# Altium footprint library TPS610994YFFT.PcbLib: 1 footprints
Each footprint in its own frame and in the unit in brackets; x right, y up, seen from the top. Pads: shape width x height; smd on the part's side, far side on the other; paste and mask are expansions set on the pad; w line width, h text height; cw(c..) or ccw(c..) is an arc to the next point about the centre after c.
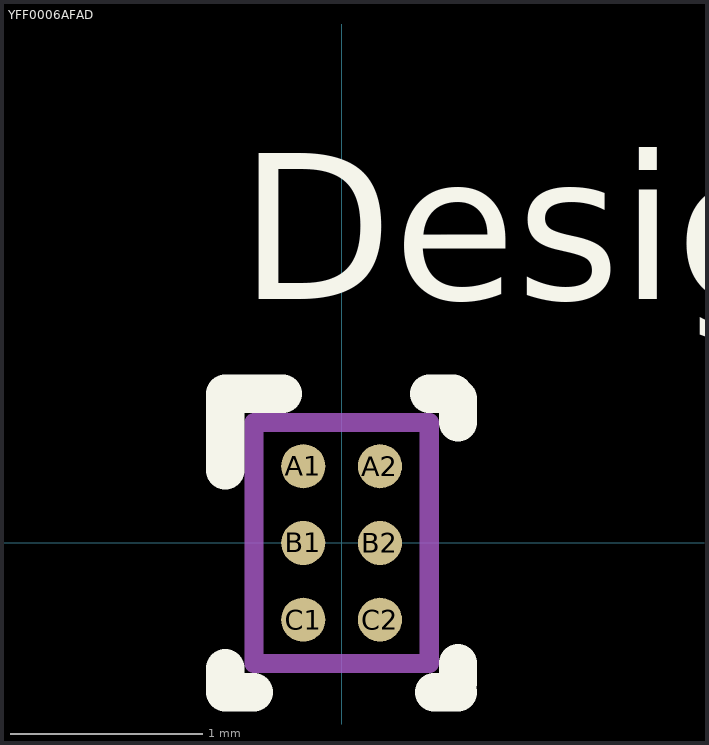
[diagram p0: the footprint, top view; thin cyan lines are the x and y axes]

## YFF0006AFAD [mm]
pads (6):
  round 0.23 smd paste-0.102 mask+0.038: A1(-0.2,0.4) A2(0.2,0.4) B1(-0.2,0) B2(0.2,0) C1(-0.2,-0.4) C2(0.2,-0.4)
Top Overlay:
  lines w0.2: -0.607,-0.653 -0.607,-0.778 -0.457,-0.778 ; -0.607,0.378 -0.607,0.778 -0.307,0.778 ; 0.457,0.778 0.582,0.778 ; 0.482,-0.778 0.607,-0.778 ; 0.607,-0.728 0.607,-0.628 ; 0.607,0.628 0.607,0.753
  text "Designator9" at -0.533,1.27 h1.27
Top Paste:
  circle w0.05: c-0.125,-0.475 r0.025
  circle w0.05: c-0.275,-0.325 r0.025
  circle w0.05: c-0.125,-0.325 r0.025
  circle w0.05: c-0.275,-0.475 r0.025
  circle w0.05: c-0.125,-0.075 r0.025
  circle w0.05: c-0.275,0.075 r0.025
  circle w0.05: c-0.125,0.075 r0.025
  circle w0.05: c-0.275,-0.075 r0.025
  circle w0.05: c-0.275,0.325 r0.025
  circle w0.05: c-0.125,0.475 r0.025
  circle w0.05: c-0.275,0.475 r0.025
  circle w0.05: c-0.125,0.325 r0.025
  circle w0.05: c0.275,-0.475 r0.025
  circle w0.05: c0.125,-0.325 r0.025
  circle w0.05: c0.275,-0.325 r0.025
  circle w0.05: c0.125,-0.475 r0.025
  circle w0.05: c0.275,-0.075 r0.025
  circle w0.05: c0.125,0.075 r0.025
  circle w0.05: c0.275,0.075 r0.025
  circle w0.05: c0.125,-0.075 r0.025
  circle w0.05: c0.125,0.325 r0.025
  circle w0.05: c0.275,0.475 r0.025
  circle w0.05: c0.125,0.475 r0.025
  circle w0.05: c0.275,0.325 r0.025
  region: -0.275,-0.325 -0.325,-0.325 -0.325,-0.475 -0.275,-0.475
  region: -0.125,-0.325 -0.125,-0.275 -0.275,-0.275 -0.275,-0.325
  region: -0.125,-0.475 -0.075,-0.475 -0.075,-0.325 -0.125,-0.325
  region: -0.275,-0.475 -0.275,-0.525 -0.125,-0.525 -0.125,-0.475
  region: -0.125,-0.475 -0.125,-0.325 -0.275,-0.325 -0.275,-0.475
  region: -0.275,0.075 -0.325,0.075 -0.325,-0.075 -0.275,-0.075
  region: -0.125,0.075 -0.125,0.125 -0.275,0.125 -0.275,0.075
  region: -0.125,-0.075 -0.075,-0.075 -0.075,0.075 -0.125,0.075
  region: -0.275,-0.075 -0.275,-0.125 -0.125,-0.125 -0.125,-0.075
  region: -0.125,-0.075 -0.125,0.075 -0.275,0.075 -0.275,-0.075
  region: -0.125,0.325 -0.125,0.475 -0.275,0.475 -0.275,0.325
  region: -0.275,0.325 -0.275,0.275 -0.125,0.275 -0.125,0.325
  region: -0.125,0.325 -0.075,0.325 -0.075,0.475 -0.125,0.475
  region: -0.125,0.475 -0.125,0.525 -0.275,0.525 -0.275,0.475
  region: -0.275,0.475 -0.325,0.475 -0.325,0.325 -0.275,0.325
  region: 0.125,-0.325 0.075,-0.325 0.075,-0.475 0.125,-0.475
  region: 0.275,-0.325 0.275,-0.275 0.125,-0.275 0.125,-0.325
  region: 0.275,-0.475 0.325,-0.475 0.325,-0.325 0.275,-0.325
  region: 0.125,-0.475 0.125,-0.525 0.275,-0.525 0.275,-0.475
  region: 0.275,-0.475 0.275,-0.325 0.125,-0.325 0.125,-0.475
  region: 0.125,0.075 0.075,0.075 0.075,-0.075 0.125,-0.075
  region: 0.275,0.075 0.275,0.125 0.125,0.125 0.125,0.075
  region: 0.275,-0.075 0.325,-0.075 0.325,0.075 0.275,0.075
  region: 0.125,-0.075 0.125,-0.125 0.275,-0.125 0.275,-0.075
  region: 0.275,-0.075 0.275,0.075 0.125,0.075 0.125,-0.075
  region: 0.275,0.325 0.275,0.475 0.125,0.475 0.125,0.325
  region: 0.125,0.325 0.125,0.275 0.275,0.275 0.275,0.325
  region: 0.275,0.325 0.325,0.325 0.325,0.475 0.275,0.475
  region: 0.275,0.475 0.275,0.525 0.125,0.525 0.125,0.475
  region: 0.125,0.475 0.075,0.475 0.075,0.325 0.125,0.325
Mechanical 13:
  circle w0.06: c-0.2,0.4 r0.08
  lines w0.1: -0.457,-0.628 -0.457,0.628 0.457,0.628 0.457,-0.628 -0.457,-0.628